# Altium integrated library NHD-0216CW-AB3.IntLib: 1 symbol
Pins are listed as number, name and electrical type; pins without a type are passive.

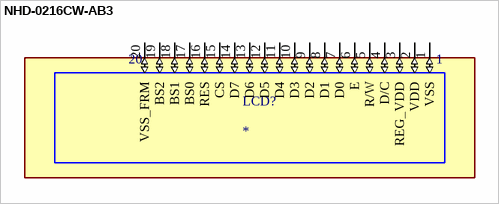
[diagram p0: symbol NHD-0216CW-AB3]

## NHD-0216CW-AB3
designator LCD?
Character OLED;2x16;760x24.5;Char OLED Module;Blue;4/8-bit Parallel, SPI, I2C | Newhaven Display International NHD-0216CW-AB3; SnapEDA_Link: https://www.snapeda.com/parts/NHD-0216CW-AB3/Newhaven+Display+Intl/view-part/?ref=snap; Package: None; Value: *; MF: Newhaven Display; MP: NHD-0216CW-AB3; Check_prices: https://www.snapeda.com/parts/NHD-0216CW-AB3/Newhaven+Display+Intl/view-part/?ref=eda
footprint NHD-0216CW-AB3
pins: 1 VSS (io), 2 VDD (io), 3 REG_VDD (io), 4 D/C (io), 5 R/W (io), 6 E (io), 7 D0 (io), 8 D1 (io), 9 D2 (io), 10 D3 (io), 11 D4 (io), 12 D5 (io), 13 D6 (io), 14 D7 (io), 15 CS (io), 16 RES (io), 17 BS0 (io), 18 BS1 (io), 19 BS2 (io), 20 VSS_FRM (io)